# Altium footprint library MAX14920.PcbLib: 3 footprints
Each footprint in its own frame and in the unit in brackets; x right, y up, seen from the top. Pads: shape width x height; smd on the part's side, far side on the other; paste and mask are expansions set on the pad; w line width, h text height; cw(c..) or ccw(c..) is an arc to the next point about the centre after c.
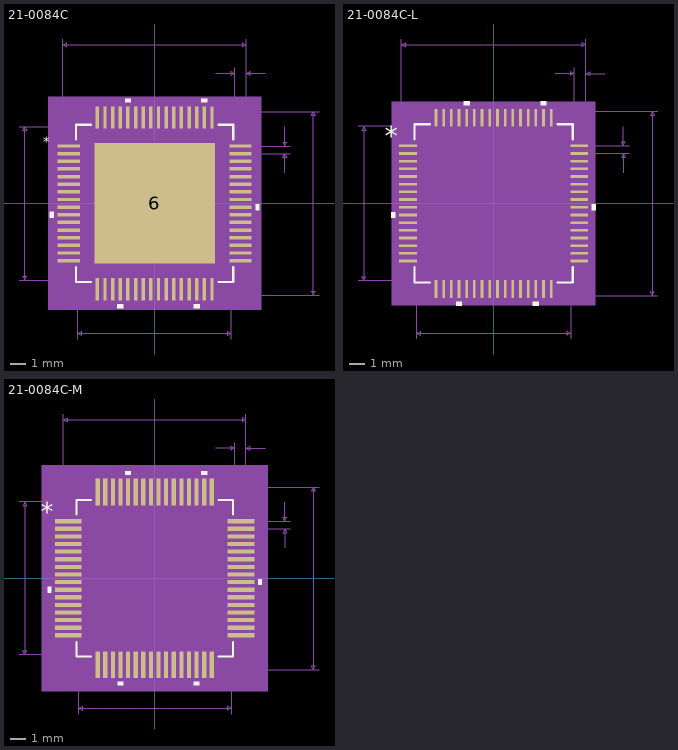
[diagram p0: the footprints below, top view; thin cyan lines are the x and y axes]

## 21-0084C [mil]
pads (65):
  rect 58x9 smd paste+0 mask+0: 1(-225,150) 2(-225,130) 3(-225,110) 4(-225,90) 5(-225,70) 6(-225,50) 7(-225,30) 8(-225,10) 9(-225,-10) 10(-225,-30) 11(-225,-50) 12(-225,-70) 13(-225,-90) 14(-225,-110) 15(-225,-130) 16(-225,-150) 33(225,-150) 34(225,-130) 35(225,-110) 36(225,-90) 37(225,-70) 38(225,-50) 39(225,-30) 40(225,-10) 41(225,10) 42(225,30) 43(225,50) 44(225,70) 45(225,90) 46(225,110) 47(225,130) 48(225,150)
  rect 314.96x314.96 smd paste+0 mask+0: 6(0,0)
  rect 9x58 smd paste+0 mask+0: 17(-150,-225) 18(-130,-225) 19(-110,-225) 20(-90,-225) 21(-70,-225) 22(-50,-225) 23(-30,-225) 24(-10,-225) 25(10,-225) 26(30,-225) 27(50,-225) 28(70,-225) 29(90,-225) 30(110,-225) 31(130,-225) 32(150,-225) 49(150,225) 50(130,225) 51(110,225) 52(90,225) 53(70,225) 54(50,225) 55(30,225) 56(10,225) 57(-10,225) 58(-30,225) 59(-50,225) 60(-70,225) 61(-90,225) 62(-110,225) 63(-130,225) 64(-150,225)
Top Overlay:
  region: 264,-2.5 274,-2.5 274,-17.5 264,-17.5
  region: -62.5,264 -77.5,264 -77.5,274 -62.5,274
  region: 137.5,264 122.5,264 122.5,274 137.5,274
  region: 117.5,-264 102.5,-264 102.5,-274 117.5,-274
  region: -82.5,-264 -97.5,-264 -97.5,-274 -82.5,-274
  region: -264,-22.5 -274,-22.5 -274,-37.5 -264,-37.5
  lines w6: -206,-167.6 -206,-206 -167.6,-206 ; -206,167.6 -206,206 -167.6,206 ; 167.6,-206 206,-206 206,-167.6 ; 167.6,206 206,206 206,167.6
  text "*" at -291.5,150 h25
Mechanical 5:
  region: 279,-279 -279,-279 -279,279 279,279
Mechanical 7:
  lines w1: -355,-201 -150,-201 ; -355,201 -150,201 ; -240,150 -240,430 ; -201,-355 -201,-150 ; 150,-240 430,-240 ; 150,240 430,240 ; 160,340 210,340 ; 201,-355 201,-150 ; 210,150 210,355 ; 225,130 355,130 ; 225,150 355,150 ; 240,355 240,150 240,430 ; 290,340 240,340 ; 340,80 340,130 ; 340,200 340,150 ; -340,-201 -335,-191 -345,-191 -340,-201 ; -340,-201 -340,201 ; -340,201 -335,191 -345,191 -340,201 ; -240,415 -230,410 -230,420 -240,415 ; -240,415 240,415 ; -201,-340 -191,-345 -191,-335 -201,-340 ; -201,-340 201,-340 ; 201,-340 191,-345 191,-335 201,-340 ; 210,340 200,335 200,345 210,340 ; 240,340 250,335 250,345 240,340 ; 240,415 230,410 230,420 240,415 ; 340,130 345,120 335,120 340,130 ; 340,150 345,160 335,160 340,150 ; 415,-240 420,-230 410,-230 415,-240 ; 415,-240 415,240 ; 415,240 420,230 410,230 415,240
  text "0.48in/12.192mm" at 435,-12.5 h25
  text "0.402in/10.211mm" at -560,-12.5 h25
  text "0.402in/10.211mm" at -100,-385 h25
  text "0.48in/12.192mm" at -93.75,435 h25
  text "0.03in/0.762mm" at 137.5,360 h25
  text "0.02in/0.508mm" at 360,127.5 h25
  text "Alt 2 Padstyle: OX90Y60D30P" at -337.5,-790 h50
  text "Alt 1 Padstyle: OX60Y90D30P" at -337.5,-730 h50
  text "Default Vert Padstyle: RX9Y58D0T" at -400,-550 h50
  text "Default Horiz Padstyle: RX9Y58D0T" at -412.5,-490 h50
Mechanical 13:
  drawing of 261 lines, arcs and shapes, not listed
  text "*" at -198.5,135 h50
Mechanical 15:
  region: -164.5,-211 -211,-211 -211,-164.5 -264,-164.5 -264,164.5 -211,164.5 -211,211 -164.5,211 -164.5,264 164.5,264 164.5,211 211,211 211,164.5 264,164.5 264,-164.5 211,-164.5 211,-211 164.5,-211 164.5,-264 -164.5,-264
  lines w6: -264,-164.5 -264,164.5 -211,164.5 -211,211 -164.5,211 -164.5,264 164.5,264 164.5,211 211,211 211,164.5 264,164.5 264,-164.5 211,-164.5 211,-211 164.5,-211 164.5,-264 -164.5,-264 -164.5,-211 -211,-211 -211,-164.5 -264,-164.5
3D body: height 10, standoff 0, extent 0,0 10,10

## 21-0084C-L [mil]
pads (64):
  rect 46x7 smd paste+0 mask+0: 1(-223,150) 2(-223,130) 3(-223,110) 4(-223,90) 5(-223,70) 6(-223,50) 7(-223,30) 8(-223,10) 9(-223,-10) 10(-223,-30) 11(-223,-50) 12(-223,-70) 13(-223,-90) 14(-223,-110) 15(-223,-130) 16(-223,-150) 33(223,-150) 34(223,-130) 35(223,-110) 36(223,-90) 37(223,-70) 38(223,-50) 39(223,-30) 40(223,-10) 41(223,10) 42(223,30) 43(223,50) 44(223,70) 45(223,90) 46(223,110) 47(223,130) 48(223,150)
  rect 7x46 smd paste+0 mask+0: 17(-150,-223) 18(-130,-223) 19(-110,-223) 20(-90,-223) 21(-70,-223) 22(-50,-223) 23(-30,-223) 24(-10,-223) 25(10,-223) 26(30,-223) 27(50,-223) 28(70,-223) 29(90,-223) 30(110,-223) 31(130,-223) 32(150,-223) 49(150,223) 50(130,223) 51(110,223) 52(90,223) 53(70,223) 54(50,223) 55(30,223) 56(10,223) 57(-10,223) 58(-30,223) 59(-50,223) 60(-70,223) 61(-90,223) 62(-110,223) 63(-130,223) 64(-150,223)
Top Overlay:
  region: -256,-22.5 -266,-22.5 -266,-37.5 -256,-37.5
  region: -82.5,-256 -97.5,-256 -97.5,-266 -82.5,-266
  region: 117.5,-256 102.5,-256 102.5,-266 117.5,-266
  region: 256,-2.5 266,-2.5 266,-17.5 256,-17.5
  region: 137.5,256 122.5,256 122.5,266 137.5,266
  region: -62.5,256 -77.5,256 -77.5,266 -62.5,266
  lines w6: -206,-166.6 -206,-206 -166.6,-206 ; -206,166.6 -206,206 -166.6,206 ; 166.6,-206 206,-206 206,-166.6 ; 166.6,206 206,206 206,166.6
  text "*" at -283.5,150 h50
Mechanical 5:
  region: 265,-265 -265,-265 -265,265 265,265
Mechanical 7:
  lines w1: -353,-201 -150,-201 ; -353,201 -150,201 ; -240,150 -240,428 ; -201,-353 -201,-150 ; 150,-240 428,-240 ; 150,240 428,240 ; 160,338 210,338 ; 201,-353 201,-150 ; 210,150 210,353 ; 223,130 353,130 ; 223,150 353,150 ; 240,353 240,150 240,428 ; 290,338 240,338 ; 338,80 338,130 ; 338,200 338,150 ; -338,-201 -338,201 ; -338,-201 -343,-191 -333,-191 -338,-201 ; -338,201 -343,191 -333,191 -338,201 ; -240,413 240,413 ; -240,413 -230,418 -230,408 -240,413 ; -201,-338 201,-338 ; -201,-338 -191,-333 -191,-343 -201,-338 ; 201,-338 191,-333 191,-343 201,-338 ; 210,338 200,343 200,333 210,338 ; 240,338 250,343 250,333 240,338 ; 240,413 230,418 230,408 240,413 ; 338,130 333,120 343,120 338,130 ; 338,150 333,160 343,160 338,150 ; 413,-240 413,240 ; 413,-240 408,-230 418,-230 413,-240 ; 413,240 408,230 418,230 413,240
  text "Default Horiz Padstyle: RX7Y46D0T" at -412.5,-488 h50
  text "Default Vert Padstyle: RX7Y46D0T" at -400,-548 h50
  text "Alt 1 Padstyle: OX60Y90D30P" at -337.5,-728 h50
  text "Alt 2 Padstyle: OX90Y60D30P" at -337.5,-788 h50
  text "0.02in/0.508mm" at 358,127.5 h25
  text "0.03in/0.762mm" at 137.5,358 h25
  text "0.48in/12.192mm" at -93.75,433 h25
  text "0.402in/10.211mm" at -100,-383 h25
  text "0.402in/10.211mm" at -558,-12.5 h25
  text "0.48in/12.192mm" at 433,-12.5 h25
Mechanical 13:
  drawing of 265 lines, arcs and shapes, not listed
  text "*" at -198.5,135 h50
Mechanical 15:
  region: -157.5,-205 -205,-205 -205,-157.5 -250,-157.5 -250,157.5 -205,157.5 -205,205 -157.5,205 -157.5,250 157.5,250 157.5,205 205,205 205,157.5 250,157.5 250,-157.5 205,-157.5 205,-205 157.5,-205 157.5,-250 -157.5,-250
  lines w6: -250,-157.5 -205,-157.5 -205,-205 -157.5,-205 -157.5,-250 157.5,-250 157.5,-205 205,-205 205,-157.5 250,-157.5 250,157.5 205,157.5 205,205 157.5,205 157.5,250 -157.5,250 -157.5,205 -205,205 -205,157.5 -250,157.5 -250,-157.5
3D body: height 10, standoff 0, extent 0,0 10,10

## 21-0084C-M [mil]
pads (64):
  rect 70x11 smd paste+0 mask+0: 1(-227,150) 2(-227,130) 3(-227,110) 4(-227,90) 5(-227,70) 6(-227,50) 7(-227,30) 8(-227,10) 9(-227,-10) 10(-227,-30) 11(-227,-50) 12(-227,-70) 13(-227,-90) 14(-227,-110) 15(-227,-130) 16(-227,-150) 33(227,-150) 34(227,-130) 35(227,-110) 36(227,-90) 37(227,-70) 38(227,-50) 39(227,-30) 40(227,-10) 41(227,10) 42(227,30) 43(227,50) 44(227,70) 45(227,90) 46(227,110) 47(227,130) 48(227,150)
  rect 11x70 smd paste+0 mask+0: 17(-150,-227) 18(-130,-227) 19(-110,-227) 20(-90,-227) 21(-70,-227) 22(-50,-227) 23(-30,-227) 24(-10,-227) 25(10,-227) 26(30,-227) 27(50,-227) 28(70,-227) 29(90,-227) 30(110,-227) 31(130,-227) 32(150,-227) 49(150,227) 50(130,227) 51(110,227) 52(90,227) 53(70,227) 54(50,227) 55(30,227) 56(10,227) 57(-10,227) 58(-30,227) 59(-50,227) 60(-70,227) 61(-90,227) 62(-110,227) 63(-130,227) 64(-150,227)
Top Overlay:
  region: -272,-22.5 -282,-22.5 -282,-37.5 -272,-37.5
  region: -82.5,-272 -97.5,-272 -97.5,-282 -82.5,-282
  region: 117.5,-272 102.5,-272 102.5,-282 117.5,-282
  region: 272,-2.5 282,-2.5 282,-17.5 272,-17.5
  region: 137.5,272 122.5,272 122.5,282 137.5,282
  region: -62.5,272 -77.5,272 -77.5,282 -62.5,282
  lines w6: -206,-168.6 -206,-206 -168.6,-206 ; -206,168.6 -206,206 -168.6,206 ; 168.6,-206 206,-206 206,-168.6 ; 168.6,206 206,206 206,168.6
  text "*" at -299.5,150 h50
Mechanical 5:
  region: 297,-297 -297,-297 -297,297 297,297
Mechanical 7:
  lines w1: -357,-201 -150,-201 ; -357,201 -150,201 ; -240,150 -240,432 ; -201,-357 -201,-150 ; 150,-240 432,-240 ; 150,240 432,240 ; 160,342 210,342 ; 201,-357 201,-150 ; 210,150 210,357 ; 227,130 357,130 ; 227,150 357,150 ; 240,357 240,150 240,432 ; 290,342 240,342 ; 342,80 342,130 ; 342,200 342,150 ; -342,-201 -342,201 ; -342,-201 -347,-191 -337,-191 -342,-201 ; -342,201 -347,191 -337,191 -342,201 ; -240,417 240,417 ; -240,417 -230,422 -230,412 -240,417 ; -201,-342 201,-342 ; -201,-342 -191,-337 -191,-347 -201,-342 ; 201,-342 191,-337 191,-347 201,-342 ; 210,342 200,347 200,337 210,342 ; 240,342 250,347 250,337 240,342 ; 240,417 230,422 230,412 240,417 ; 342,130 337,120 347,120 342,130 ; 342,150 337,160 347,160 342,150 ; 417,-240 417,240 ; 417,-240 412,-230 422,-230 417,-240 ; 417,240 412,230 422,230 417,240
  text "Default Horiz Padstyle: RX11Y70D0T" at -425,-492 h50
  text "Default Vert Padstyle: RX11Y70D0T" at -412.5,-552 h50
  text "Alt 1 Padstyle: OX60Y90D30P" at -337.5,-732 h50
  text "Alt 2 Padstyle: OX90Y60D30P" at -337.5,-792 h50
  text "0.02in/0.508mm" at 362,127.5 h25
  text "0.03in/0.762mm" at 137.5,362 h25
  text "0.48in/12.192mm" at -93.75,437 h25
  text "0.402in/10.211mm" at -100,-387 h25
  text "0.402in/10.211mm" at -562,-12.5 h25
  text "0.48in/12.192mm" at 437,-12.5 h25
Mechanical 13:
  drawing of 265 lines, arcs and shapes, not listed
  text "*" at -198.5,135 h50
Mechanical 15:
  region: -175.5,-221 -221,-221 -221,-175.5 -282,-175.5 -282,175.5 -221,175.5 -221,221 -175.5,221 -175.5,282 175.5,282 175.5,221 221,221 221,175.5 282,175.5 282,-175.5 221,-175.5 221,-221 175.5,-221 175.5,-282 -175.5,-282
  lines w6: -282,-175.5 -221,-175.5 -221,-221 -175.5,-221 -175.5,-282 175.5,-282 175.5,-221 221,-221 221,-175.5 282,-175.5 282,175.5 221,175.5 221,221 175.5,221 175.5,282 -175.5,282 -175.5,221 -221,221 -221,175.5 -282,175.5 -282,-175.5
3D body: height 10, standoff 0, extent 0,0 10,10